# EAGLE library part SX1278 (library SX1278)
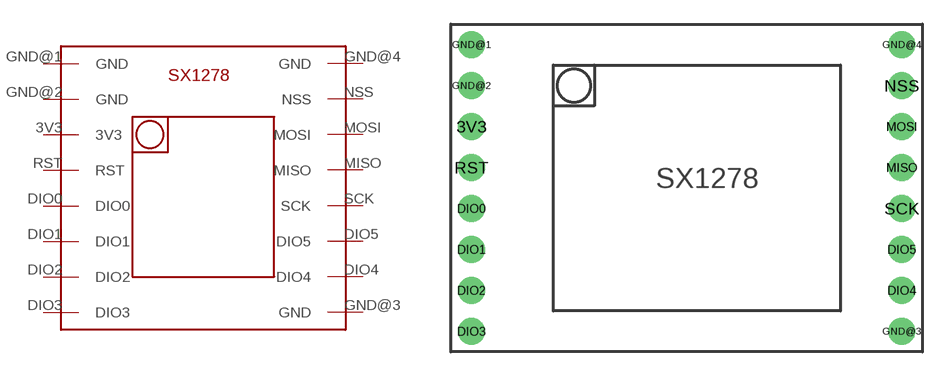
[diagram p0: symbol with the pads of SX1278; footprint SX1278]

Designator prefix -

## SX1278  [SX1278]
3V3  3V3
DIO0  DIO0
DIO1  DIO1
DIO2  DIO2
DIO3  DIO3
DIO4  DIO4
DIO5  DIO5
GND@1  GND
GND@2  GND
GND@3  GND
GND@4  GND
MISO  MISO
MOSI  MOSI
NSS  NSS
RST  RST
SCK  SCK

## Footprint SX1278 (pad centres in mm)
drill 0.9 pad 1.676: 3V3 -16.51,-6.35; DIO0 -16.51,-11.43; DIO1 -16.51,-13.97; DIO2 -16.51,-16.51; DIO3 -16.51,-19.05; DIO4 10.16,-16.51; DIO5 10.16,-13.97; GND@1 -16.51,-1.27; GND@2 -16.51,-3.81; GND@3 10.16,-19.05; GND@4 10.16,-1.27; MISO 10.16,-8.89; MOSI 10.16,-6.35; NSS 10.16,-3.81; RST -16.51,-8.89; SCK 10.16,-11.43